# Altium footprint library SD_MMC_9.PcbLib: 1 footprints
Each footprint in its own frame and in the unit in brackets; x right, y up, seen from the top. Pads: shape width x height; smd on the part's side, far side on the other; paste and mask are expansions set on the pad; w line width, h text height; cw(c..) or ccw(c..) is an arc to the next point about the centre after c.
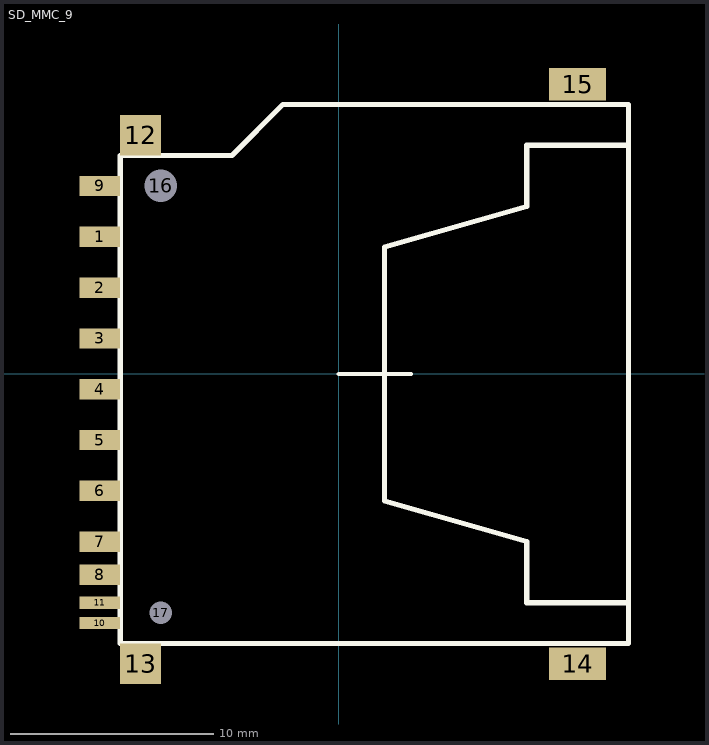
[diagram p0: the footprint, top view; thin cyan lines are the x and y axes]

## SD_MMC_9 [mm] "CONN SMART CARD SD/MMC 9PIN"
height 3.2
pads (17):
  rect 2x1 smd: 1(-11.753,6.74) 2(-11.753,4.24) 3(-11.753,1.74) 4(-11.753,-0.76) 5(-11.753,-3.26) 6(-11.753,-5.76) 7(-11.753,-8.26) 8(-11.753,-9.885) 9(-11.753,9.24)
  rect 2x0.6 smd: 10(-11.753,-12.26) 11(-11.753,-11.26)
  rect 2x2 smd: 12(-9.753,11.74) 13(-9.753,-14.26)
  rect 2.8x1.6 smd: 14(11.747,-14.26) 15(11.747,14.24)
  round 1.5 hole 1.6: 16(-8.753,9.24)
  round 1 hole 1.1: 17(-8.753,-11.76)
Top Overlay:
  lines w0.2: -0.003,-0.01 3.553,-0.01
  lines w0.254: 14.247,-11.26 9.247,-11.26 9.247,-8.26 2.247,-6.26 2.247,6.24 9.247,8.24 9.247,11.24 14.247,11.24 ; -10.753,-13.26 14.247,-13.26 14.247,13.24 -2.753,13.24 -5.253,10.74 -10.753,10.74 -10.753,-13.26